# Altium schematic symbol library SI8233BD-D-IS.Schlib: 1 symbol
Pins are listed as number, name and electrical type; pins without a type are passive.

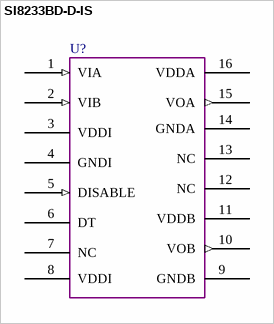
[diagram p0: symbol SI8233BD-D-IS]

## SI8233BD-D-IS
designator U?  (value not drawn)
pins: 1 VIA (in), 2 VIB (in), 3 VDDI (power), 4 GNDI (power), 5 DISABLE (in), 6 DT, 7 NC, 8 VDDI (power), 9 GNDB (power), 10 VOB (out), 11 VDDB (power), 12 NC, 13 NC, 14 GNDA (power), 15 VOA (out), 16 VDDA (power)